# Altium footprint library RES0805.PcbLib: 1 footprints
Each footprint in its own frame and in the unit in brackets; x right, y up, seen from the top. Pads: shape width x height; smd on the part's side, far side on the other; paste and mask are expansions set on the pad; w line width, h text height; cw(c..) or ccw(c..) is an arc to the next point about the centre after c.
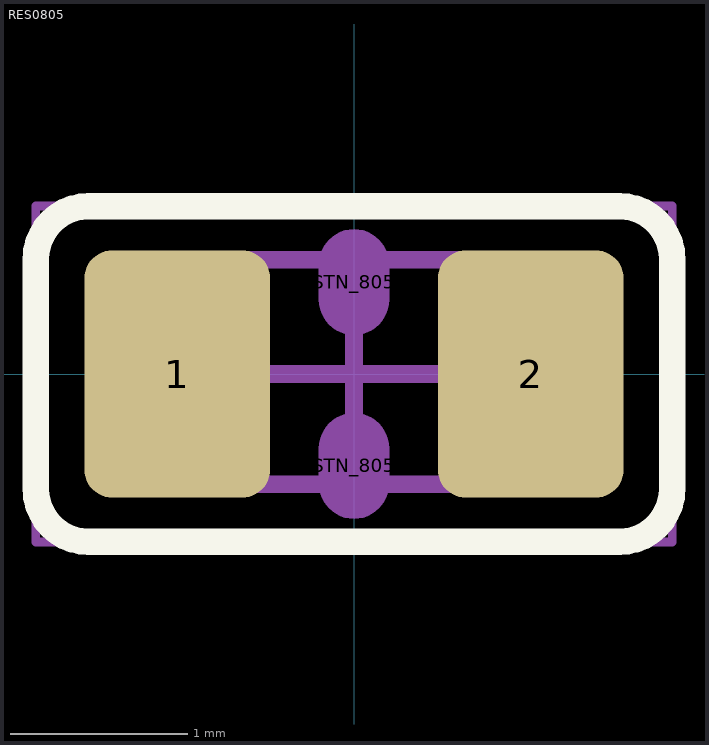
[diagram p0: the footprint, top view; thin cyan lines are the x and y axes]

## RES0805 [mm] "Chip Resistor, 2-Leads, Body 2/00x1/25mm, IPC Medium Density DESIGNER:ABBAS BASEREH"
height 0.5
pads (4):
  rrect30% 1.05x1.4 smd: 1(-1,0) 2(1,0)
  oval 0.4x0.6 on Mech2 mask+0: STN_805(0,-0.52) STN_805(0,0.52)
Top Overlay:
  lines w0.15: -1.8,-0.65 ccw(c-1.5,-0.65) -1.5,-0.95 -1.436,-0.95 1.5,-0.95 ccw(c1.5,-0.65) 1.8,-0.65 1.8,0.65 ccw(c1.5,0.65) 1.5,0.95 1.46,0.95 -1.5,0.95 ccw(c-1.5,0.65) -1.8,0.65 -1.8,-0.65
Mechanical 13:
  lines w0.1: -0.999,-0.624 1.001,-0.624 1.001,0.646 -0.999,0.646 -0.999,-0.624
Mechanical 15:
  lines w0.05: -1.8,-0.95 1.8,-0.95 1.8,0.95 -1.8,0.95 -1.8,-0.95
  lines w0.1: -0.5,0 0.5,0 ; 0,-0.5 0,0.5
3D body "Resistor_0805_Text.step": height 0.52, standoff 0.01, extent -0.999,-0.614 1.001,0.636